# Altium integrated library Lattice SPLD GAL.IntLib: 360 symbols (part 9 of 9)
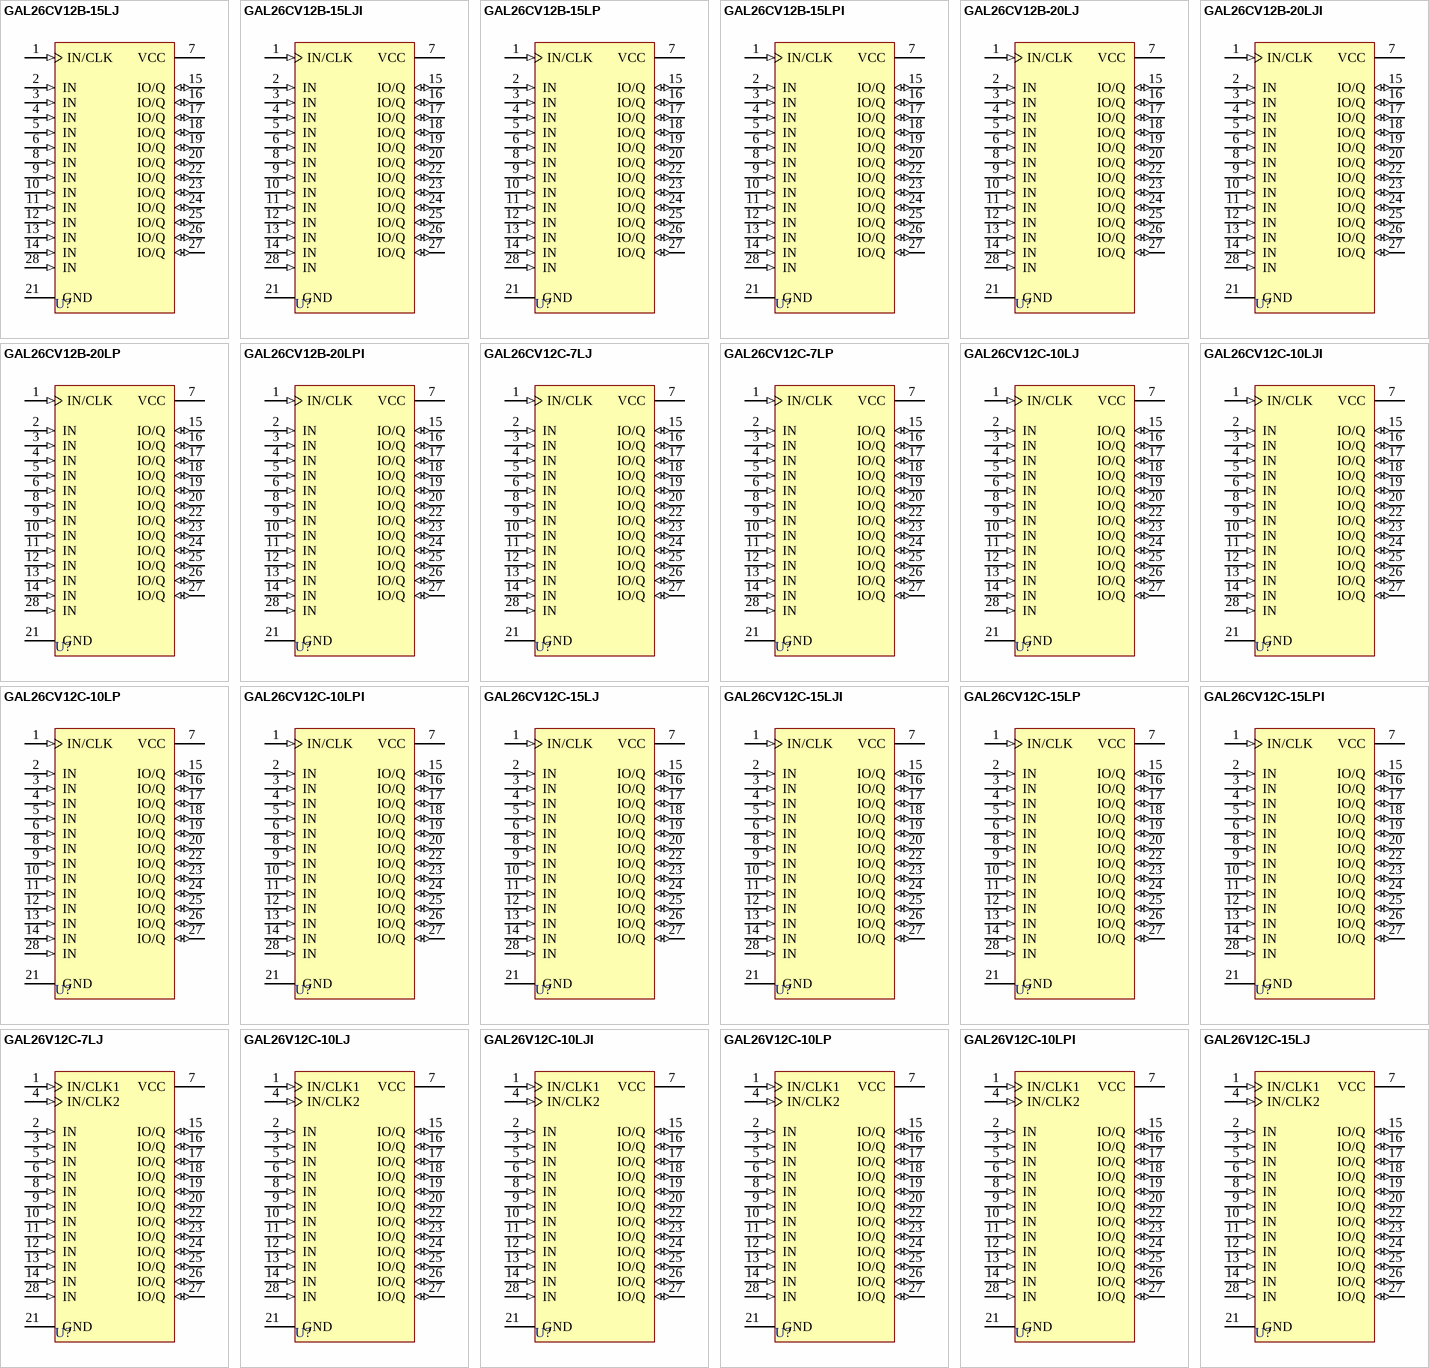
[diagram p21: symbols GAL26CV12B-15LJ to GAL26V12C-15LJ]

## GAL26CV12C-10LJI
designator U?
GAL26CV12 High Performance E²CMOS PLD Generic Array Logic: 5.0 V, 10 ns, Industrial Grade; Published: 17-Jul-2002; LatestRevisionDate: 13-Apr-2006; LatestRevisionNote: IPC-7351 Footprint Added.; DatasheetVersion: 26cv12_03, Jun-2000; PackageVersion: pkg_32, Aug-2005; PackageReference: PLCC28; Publisher: Altium Limited; PackageDescription: 28-Pin Leaded Chip Carrier 1.27 mm Pitch; Code_IPC: PLCC-28; ComponentLink1Description: Manufacturer Link; ComponentLink1URL: http://www.latticesemi.com/products/spld/GAL/index.cfm; ComponentLink2Description: Datasheet; ComponentLink2URL: http://www.latticesemi.com/lit/docs/datasheets/pal_gal/26cv12.pdf
footprint PLCC28_N (Leaded Chip Carrier, 28-Leads, Body 11.5x11.5mm, Pitch 1.27mm, IPC Medium Density)
footprint PLCC28_L (Leaded Chip Carrier, 28-Leads, Body 11.5x11.5mm, Pitch 1.27mm, IPC High Density)
footprint PLCC28_M (Leaded Chip Carrier, 28-Leads, Body 11.5x11.5mm, Pitch 1.27mm, IPC Low Density)
3D model 26CV12-PLCC28 (28-Pin Leaded Chip Carrier 1.27 mm Pitch)
pins: 1 IN/CLK (in), 2 IN (in), 3 IN (in), 4 IN (in), 5 IN (in), 6 IN (in), 7 VCC (power), 8 IN (in), 9 IN (in), 10 IN (in), 11 IN (in), 12 IN (in), 13 IN (in), 14 IN (in), 15 IO/Q (io), 16 IO/Q (io), 17 IO/Q (io), 18 IO/Q (io), 19 IO/Q (io), 20 IO/Q (io), 21 GND (power), 22 IO/Q (io), 23 IO/Q (io), 24 IO/Q (io), 25 IO/Q (io), 26 IO/Q (io), 27 IO/Q (io), 28 IN (in)

## GAL26CV12C-10LP
designator U?
GAL26CV12 High Performance E²CMOS PLD Generic Array Logic: 5.0 V, 10 ns, Commercial Grade; Published: 17-Jul-2002; LatestRevisionDate: 04-Mar-2005; LatestRevisionNote: Stylized 3D Model Added.; DatasheetVersion: 26cv12_02, Jul-1997; PackageVersion: pkg_32, Aug-2005; PackageReference: PDIP28; Publisher: Altium Limited; PackageDescription: DIP; 28 Leads; Row Spacing 7.62 mm; Pitch 2.54 mm; ComponentLink1Description: Manufacturer Link; ComponentLink1URL: http://www.latticesemi.com/products/spld/GAL/index.cfm
footprint PDIP28 (DIP; 28 Leads; Row Spacing 7.62 mm; Pitch 2.54 mm)
3D model PDIP28 (DIP; 28 Leads; Row Spacing 7.62 mm; Pitch 2.54 mm)
pins: 1 IN/CLK (in), 2 IN (in), 3 IN (in), 4 IN (in), 5 IN (in), 6 IN (in), 7 VCC (power), 8 IN (in), 9 IN (in), 10 IN (in), 11 IN (in), 12 IN (in), 13 IN (in), 14 IN (in), 15 IO/Q (io), 16 IO/Q (io), 17 IO/Q (io), 18 IO/Q (io), 19 IO/Q (io), 20 IO/Q (io), 21 GND (power), 22 IO/Q (io), 23 IO/Q (io), 24 IO/Q (io), 25 IO/Q (io), 26 IO/Q (io), 27 IO/Q (io), 28 IN (in)

## GAL26CV12C-10LPI
designator U?
GAL26CV12 High Performance E²CMOS PLD Generic Array Logic: 5.0 V, 10 ns, Industrial Grade; Published: 17-Jul-2002; LatestRevisionDate: 04-Mar-2005; LatestRevisionNote: Stylized 3D Model Added.; DatasheetVersion: 26cv12_03, Jun-2000; PackageVersion: pkg_32, Aug-2005; PackageReference: PDIP28; Publisher: Altium Limited; PackageDescription: DIP; 28 Leads; Row Spacing 7.62 mm; Pitch 2.54 mm; ComponentLink1Description: Manufacturer Link; ComponentLink1URL: http://www.latticesemi.com/products/spld/GAL/index.cfm; ComponentLink2Description: Datasheet; ComponentLink2URL: http://www.latticesemi.com/lit/docs/datasheets/pal_gal/26cv12.pdf
footprint PDIP28 (DIP; 28 Leads; Row Spacing 7.62 mm; Pitch 2.54 mm)
3D model PDIP28 (DIP; 28 Leads; Row Spacing 7.62 mm; Pitch 2.54 mm)
pins: 1 IN/CLK (in), 2 IN (in), 3 IN (in), 4 IN (in), 5 IN (in), 6 IN (in), 7 VCC (power), 8 IN (in), 9 IN (in), 10 IN (in), 11 IN (in), 12 IN (in), 13 IN (in), 14 IN (in), 15 IO/Q (io), 16 IO/Q (io), 17 IO/Q (io), 18 IO/Q (io), 19 IO/Q (io), 20 IO/Q (io), 21 GND (power), 22 IO/Q (io), 23 IO/Q (io), 24 IO/Q (io), 25 IO/Q (io), 26 IO/Q (io), 27 IO/Q (io), 28 IN (in)

## GAL26CV12C-15LJ
designator U?
GAL26CV12 High Performance E²CMOS PLD Generic Array Logic: 5.0 V, 15 ns, Commercial Grade; Published: 17-Jul-2002; LatestRevisionDate: 13-Apr-2006; LatestRevisionNote: IPC-7351 Footprint Added.; DatasheetVersion: 26cv12_02, Jul-1997; PackageVersion: pkg_32, Aug-2005; PackageReference: PLCC28; Publisher: Altium Limited; PackageDescription: 28-Pin Leaded Chip Carrier 1.27 mm Pitch; Code_IPC: PLCC-28; ComponentLink1Description: Manufacturer Link; ComponentLink1URL: http://www.latticesemi.com/products/spld/GAL/index.cfm
footprint PLCC28_N (Leaded Chip Carrier, 28-Leads, Body 11.5x11.5mm, Pitch 1.27mm, IPC Medium Density)
footprint PLCC28_L (Leaded Chip Carrier, 28-Leads, Body 11.5x11.5mm, Pitch 1.27mm, IPC High Density)
footprint PLCC28_M (Leaded Chip Carrier, 28-Leads, Body 11.5x11.5mm, Pitch 1.27mm, IPC Low Density)
3D model 26CV12-PLCC28 (28-Pin Leaded Chip Carrier 1.27 mm Pitch)
pins: 1 IN/CLK (in), 2 IN (in), 3 IN (in), 4 IN (in), 5 IN (in), 6 IN (in), 7 VCC (power), 8 IN (in), 9 IN (in), 10 IN (in), 11 IN (in), 12 IN (in), 13 IN (in), 14 IN (in), 15 IO/Q (io), 16 IO/Q (io), 17 IO/Q (io), 18 IO/Q (io), 19 IO/Q (io), 20 IO/Q (io), 21 GND (power), 22 IO/Q (io), 23 IO/Q (io), 24 IO/Q (io), 25 IO/Q (io), 26 IO/Q (io), 27 IO/Q (io), 28 IN (in)

## GAL26CV12C-15LJI
designator U?
GAL26CV12 High Performance E²CMOS PLD Generic Array Logic: 5.0 V, 15 ns, Industrial Grade; Published: 17-Jul-2002; LatestRevisionDate: 13-Apr-2006; LatestRevisionNote: IPC-7351 Footprint Added.; DatasheetVersion: 26cv12_02, Jul-1997; PackageVersion: pkg_32, Aug-2005; PackageReference: PLCC28; Publisher: Altium Limited; PackageDescription: 28-Pin Leaded Chip Carrier 1.27 mm Pitch; Code_IPC: PLCC-28; ComponentLink1Description: Manufacturer Link; ComponentLink1URL: http://www.latticesemi.com/products/spld/GAL/index.cfm
footprint PLCC28_N (Leaded Chip Carrier, 28-Leads, Body 11.5x11.5mm, Pitch 1.27mm, IPC Medium Density)
footprint PLCC28_L (Leaded Chip Carrier, 28-Leads, Body 11.5x11.5mm, Pitch 1.27mm, IPC High Density)
footprint PLCC28_M (Leaded Chip Carrier, 28-Leads, Body 11.5x11.5mm, Pitch 1.27mm, IPC Low Density)
3D model 26CV12-PLCC28 (28-Pin Leaded Chip Carrier 1.27 mm Pitch)
pins: 1 IN/CLK (in), 2 IN (in), 3 IN (in), 4 IN (in), 5 IN (in), 6 IN (in), 7 VCC (power), 8 IN (in), 9 IN (in), 10 IN (in), 11 IN (in), 12 IN (in), 13 IN (in), 14 IN (in), 15 IO/Q (io), 16 IO/Q (io), 17 IO/Q (io), 18 IO/Q (io), 19 IO/Q (io), 20 IO/Q (io), 21 GND (power), 22 IO/Q (io), 23 IO/Q (io), 24 IO/Q (io), 25 IO/Q (io), 26 IO/Q (io), 27 IO/Q (io), 28 IN (in)

## GAL26CV12C-15LP
designator U?
GAL26CV12 High Performance E²CMOS PLD Generic Array Logic: 5.0 V, 15 ns, Commercial Grade; Published: 17-Jul-2002; LatestRevisionDate: 04-Mar-2005; LatestRevisionNote: Stylized 3D Model Added.; DatasheetVersion: 26cv12_02, Jul-1997; PackageVersion: pkg_32, Aug-2005; PackageReference: PDIP28; Publisher: Altium Limited; PackageDescription: DIP; 28 Leads; Row Spacing 7.62 mm; Pitch 2.54 mm; ComponentLink1Description: Manufacturer Link; ComponentLink1URL: http://www.latticesemi.com/products/spld/GAL/index.cfm
footprint PDIP28 (DIP; 28 Leads; Row Spacing 7.62 mm; Pitch 2.54 mm)
3D model PDIP28 (DIP; 28 Leads; Row Spacing 7.62 mm; Pitch 2.54 mm)
pins: 1 IN/CLK (in), 2 IN (in), 3 IN (in), 4 IN (in), 5 IN (in), 6 IN (in), 7 VCC (power), 8 IN (in), 9 IN (in), 10 IN (in), 11 IN (in), 12 IN (in), 13 IN (in), 14 IN (in), 15 IO/Q (io), 16 IO/Q (io), 17 IO/Q (io), 18 IO/Q (io), 19 IO/Q (io), 20 IO/Q (io), 21 GND (power), 22 IO/Q (io), 23 IO/Q (io), 24 IO/Q (io), 25 IO/Q (io), 26 IO/Q (io), 27 IO/Q (io), 28 IN (in)

## GAL26CV12C-15LPI
designator U?
GAL26CV12 High Performance E²CMOS PLD Generic Array Logic: 5.0 V, 15 ns, Industrial Grade; Published: 17-Jul-2002; LatestRevisionDate: 04-Mar-2005; LatestRevisionNote: Stylized 3D Model Added.; DatasheetVersion: 26cv12_02, Jul-1997; PackageVersion: pkg_32, Aug-2005; PackageReference: PDIP28; Publisher: Altium Limited; PackageDescription: DIP; 28 Leads; Row Spacing 7.62 mm; Pitch 2.54 mm; ComponentLink1Description: Manufacturer Link; ComponentLink1URL: http://www.latticesemi.com/products/spld/GAL/index.cfm
footprint PDIP28 (DIP; 28 Leads; Row Spacing 7.62 mm; Pitch 2.54 mm)
3D model PDIP28 (DIP; 28 Leads; Row Spacing 7.62 mm; Pitch 2.54 mm)
pins: 1 IN/CLK (in), 2 IN (in), 3 IN (in), 4 IN (in), 5 IN (in), 6 IN (in), 7 VCC (power), 8 IN (in), 9 IN (in), 10 IN (in), 11 IN (in), 12 IN (in), 13 IN (in), 14 IN (in), 15 IO/Q (io), 16 IO/Q (io), 17 IO/Q (io), 18 IO/Q (io), 19 IO/Q (io), 20 IO/Q (io), 21 GND (power), 22 IO/Q (io), 23 IO/Q (io), 24 IO/Q (io), 25 IO/Q (io), 26 IO/Q (io), 27 IO/Q (io), 28 IN (in)

## GAL26V12C-7LJ
designator U?
GAL26V12 High Performance E²CMOS PLD Generic Array Logic: 5.0 V, 7.5 ns, Commercial Grade; Published: 17-Jul-2002; LatestRevisionDate: 13-Apr-2006; LatestRevisionNote: IPC-7351 Footprint Added.; DatasheetVersion: Nov-2000; PackageVersion: pkg_32, Aug-2005; PackageReference: PLCC28; Publisher: Altium Limited; PackageDescription: 28-Pin Leaded Chip Carrier 1.27 mm Pitch; Code_IPC: PLCC-28; ComponentLink1Description: Manufacturer Link; ComponentLink1URL: http://www.latticesemi.com/products/spld/GAL/index.cfm; ComponentLink2Description: Datasheet; ComponentLink2URL: http://www.latticesemi.com/lit/docs/datasheets/pal_gal/26v12.pdf
footprint PLCC28_N (Leaded Chip Carrier, 28-Leads, Body 11.5x11.5mm, Pitch 1.27mm, IPC Medium Density)
footprint PLCC28_L (Leaded Chip Carrier, 28-Leads, Body 11.5x11.5mm, Pitch 1.27mm, IPC High Density)
footprint PLCC28_M (Leaded Chip Carrier, 28-Leads, Body 11.5x11.5mm, Pitch 1.27mm, IPC Low Density)
3D model 26V12-PLCC28 (28-Pin Leaded Chip Carrier 1.27 mm Pitch)
pins: 1 IN/CLK1 (in), 2 IN (in), 3 IN (in), 4 IN/CLK2 (in), 5 IN (in), 6 IN (in), 7 VCC (power), 8 IN (in), 9 IN (in), 10 IN (in), 11 IN (in), 12 IN (in), 13 IN (in), 14 IN (in), 15 IO/Q (io), 16 IO/Q (io), 17 IO/Q (io), 18 IO/Q (io), 19 IO/Q (io), 20 IO/Q (io), 21 GND (power), 22 IO/Q (io), 23 IO/Q (io), 24 IO/Q (io), 25 IO/Q (io), 26 IO/Q (io), 27 IO/Q (io), 28 IN (in)

## GAL26V12C-10LJ
designator U?
GAL26V12 High Performance E²CMOS PLD Generic Array Logic: 5.0 V, 10 ns, Commercial Grade; Published: 17-Jul-2002; LatestRevisionDate: 13-Apr-2006; LatestRevisionNote: IPC-7351 Footprint Added.; DatasheetVersion: Nov-2000; PackageVersion: pkg_32, Aug-2005; PackageReference: PLCC28; Publisher: Altium Limited; PackageDescription: 28-Pin Leaded Chip Carrier 1.27 mm Pitch; Code_IPC: PLCC-28; ComponentLink1Description: Manufacturer Link; ComponentLink1URL: http://www.latticesemi.com/products/spld/GAL/index.cfm; ComponentLink2Description: Datasheet; ComponentLink2URL: http://www.latticesemi.com/lit/docs/datasheets/pal_gal/26v12.pdf
footprint PLCC28_N (Leaded Chip Carrier, 28-Leads, Body 11.5x11.5mm, Pitch 1.27mm, IPC Medium Density)
footprint PLCC28_L (Leaded Chip Carrier, 28-Leads, Body 11.5x11.5mm, Pitch 1.27mm, IPC High Density)
footprint PLCC28_M (Leaded Chip Carrier, 28-Leads, Body 11.5x11.5mm, Pitch 1.27mm, IPC Low Density)
3D model 26V12-PLCC28 (28-Pin Leaded Chip Carrier 1.27 mm Pitch)
pins: 1 IN/CLK1 (in), 2 IN (in), 3 IN (in), 4 IN/CLK2 (in), 5 IN (in), 6 IN (in), 7 VCC (power), 8 IN (in), 9 IN (in), 10 IN (in), 11 IN (in), 12 IN (in), 13 IN (in), 14 IN (in), 15 IO/Q (io), 16 IO/Q (io), 17 IO/Q (io), 18 IO/Q (io), 19 IO/Q (io), 20 IO/Q (io), 21 GND (power), 22 IO/Q (io), 23 IO/Q (io), 24 IO/Q (io), 25 IO/Q (io), 26 IO/Q (io), 27 IO/Q (io), 28 IN (in)

## GAL26V12C-10LJI
designator U?
GAL26V12 High Performance E²CMOS PLD Generic Array Logic: 5.0 V, 10 ns, Industrial Grade; Published: 17-Jul-2002; LatestRevisionDate: 13-Apr-2006; LatestRevisionNote: IPC-7351 Footprint Added.; DatasheetVersion: Nov-2000; PackageVersion: pkg_32, Aug-2005; PackageReference: PLCC28; Publisher: Altium Limited; PackageDescription: 28-Pin Leaded Chip Carrier 1.27 mm Pitch; Code_IPC: PLCC-28; ComponentLink1Description: Manufacturer Link; ComponentLink1URL: http://www.latticesemi.com/products/spld/GAL/index.cfm; ComponentLink2Description: Datasheet; ComponentLink2URL: http://www.latticesemi.com/lit/docs/datasheets/pal_gal/26v12.pdf
footprint PLCC28_N (Leaded Chip Carrier, 28-Leads, Body 11.5x11.5mm, Pitch 1.27mm, IPC Medium Density)
footprint PLCC28_L (Leaded Chip Carrier, 28-Leads, Body 11.5x11.5mm, Pitch 1.27mm, IPC High Density)
footprint PLCC28_M (Leaded Chip Carrier, 28-Leads, Body 11.5x11.5mm, Pitch 1.27mm, IPC Low Density)
3D model 26V12-PLCC28 (28-Pin Leaded Chip Carrier 1.27 mm Pitch)
pins: 1 IN/CLK1 (in), 2 IN (in), 3 IN (in), 4 IN/CLK2 (in), 5 IN (in), 6 IN (in), 7 VCC (power), 8 IN (in), 9 IN (in), 10 IN (in), 11 IN (in), 12 IN (in), 13 IN (in), 14 IN (in), 15 IO/Q (io), 16 IO/Q (io), 17 IO/Q (io), 18 IO/Q (io), 19 IO/Q (io), 20 IO/Q (io), 21 GND (power), 22 IO/Q (io), 23 IO/Q (io), 24 IO/Q (io), 25 IO/Q (io), 26 IO/Q (io), 27 IO/Q (io), 28 IN (in)

## GAL26V12C-10LP
designator U?
GAL26V12 High Performance E²CMOS PLD Generic Array Logic: 5.0 V, 10 ns, Commercial Grade; Published: 17-Jul-2002; LatestRevisionDate: 04-Mar-2005; LatestRevisionNote: Stylized 3D Model Added.; DatasheetVersion: Nov-2000; PackageVersion: pkg_32, Aug-2005; PackageReference: PDIP28; Publisher: Altium Limited; PackageDescription: DIP; 28 Leads; Row Spacing 7.62 mm; Pitch 2.54 mm; ComponentLink1Description: Manufacturer Link; ComponentLink1URL: http://www.latticesemi.com/products/spld/GAL/index.cfm; ComponentLink2Description: Datasheet; ComponentLink2URL: http://www.latticesemi.com/lit/docs/datasheets/pal_gal/26v12.pdf
footprint PDIP28 (DIP; 28 Leads; Row Spacing 7.62 mm; Pitch 2.54 mm)
3D model PDIP28 (DIP; 28 Leads; Row Spacing 7.62 mm; Pitch 2.54 mm)
pins: 1 IN/CLK1 (in), 2 IN (in), 3 IN (in), 4 IN/CLK2 (in), 5 IN (in), 6 IN (in), 7 VCC (power), 8 IN (in), 9 IN (in), 10 IN (in), 11 IN (in), 12 IN (in), 13 IN (in), 14 IN (in), 15 IO/Q (io), 16 IO/Q (io), 17 IO/Q (io), 18 IO/Q (io), 19 IO/Q (io), 20 IO/Q (io), 21 GND (power), 22 IO/Q (io), 23 IO/Q (io), 24 IO/Q (io), 25 IO/Q (io), 26 IO/Q (io), 27 IO/Q (io), 28 IN (in)

## GAL26V12C-10LPI
designator U?
GAL26V12 High Performance E²CMOS PLD Generic Array Logic: 5.0 V, 10 ns, Industrial Grade; Published: 17-Jul-2002; LatestRevisionDate: 04-Mar-2005; LatestRevisionNote: Stylized 3D Model Added.; DatasheetVersion: Nov-2000; PackageVersion: pkg_32, Aug-2005; PackageReference: PDIP28; Publisher: Altium Limited; PackageDescription: DIP; 28 Leads; Row Spacing 7.62 mm; Pitch 2.54 mm; ComponentLink1Description: Manufacturer Link; ComponentLink1URL: http://www.latticesemi.com/products/spld/GAL/index.cfm; ComponentLink2Description: Datasheet; ComponentLink2URL: http://www.latticesemi.com/lit/docs/datasheets/pal_gal/26v12.pdf
footprint PDIP28 (DIP; 28 Leads; Row Spacing 7.62 mm; Pitch 2.54 mm)
3D model PDIP28 (DIP; 28 Leads; Row Spacing 7.62 mm; Pitch 2.54 mm)
pins: 1 IN/CLK1 (in), 2 IN (in), 3 IN (in), 4 IN/CLK2 (in), 5 IN (in), 6 IN (in), 7 VCC (power), 8 IN (in), 9 IN (in), 10 IN (in), 11 IN (in), 12 IN (in), 13 IN (in), 14 IN (in), 15 IO/Q (io), 16 IO/Q (io), 17 IO/Q (io), 18 IO/Q (io), 19 IO/Q (io), 20 IO/Q (io), 21 GND (power), 22 IO/Q (io), 23 IO/Q (io), 24 IO/Q (io), 25 IO/Q (io), 26 IO/Q (io), 27 IO/Q (io), 28 IN (in)

## GAL26V12C-15LJ
designator U?
GAL26V12 High Performance E²CMOS PLD Generic Array Logic: 5.0 V, 15 ns, Commercial Grade; Published: 17-Jul-2002; LatestRevisionDate: 13-Apr-2006; LatestRevisionNote: IPC-7351 Footprint Added.; DatasheetVersion: Nov-2000; PackageVersion: pkg_32, Aug-2005; PackageReference: PLCC28; Publisher: Altium Limited; PackageDescription: 28-Pin Leaded Chip Carrier 1.27 mm Pitch; Code_IPC: PLCC-28; ComponentLink1Description: Manufacturer Link; ComponentLink1URL: http://www.latticesemi.com/products/spld/GAL/index.cfm; ComponentLink2Description: Datasheet; ComponentLink2URL: http://www.latticesemi.com/lit/docs/datasheets/pal_gal/26v12.pdf
footprint PLCC28_N (Leaded Chip Carrier, 28-Leads, Body 11.5x11.5mm, Pitch 1.27mm, IPC Medium Density)
footprint PLCC28_L (Leaded Chip Carrier, 28-Leads, Body 11.5x11.5mm, Pitch 1.27mm, IPC High Density)
footprint PLCC28_M (Leaded Chip Carrier, 28-Leads, Body 11.5x11.5mm, Pitch 1.27mm, IPC Low Density)
3D model 26V12-PLCC28 (28-Pin Leaded Chip Carrier 1.27 mm Pitch)
pins: 1 IN/CLK1 (in), 2 IN (in), 3 IN (in), 4 IN/CLK2 (in), 5 IN (in), 6 IN (in), 7 VCC (power), 8 IN (in), 9 IN (in), 10 IN (in), 11 IN (in), 12 IN (in), 13 IN (in), 14 IN (in), 15 IO/Q (io), 16 IO/Q (io), 17 IO/Q (io), 18 IO/Q (io), 19 IO/Q (io), 20 IO/Q (io), 21 GND (power), 22 IO/Q (io), 23 IO/Q (io), 24 IO/Q (io), 25 IO/Q (io), 26 IO/Q (io), 27 IO/Q (io), 28 IN (in)

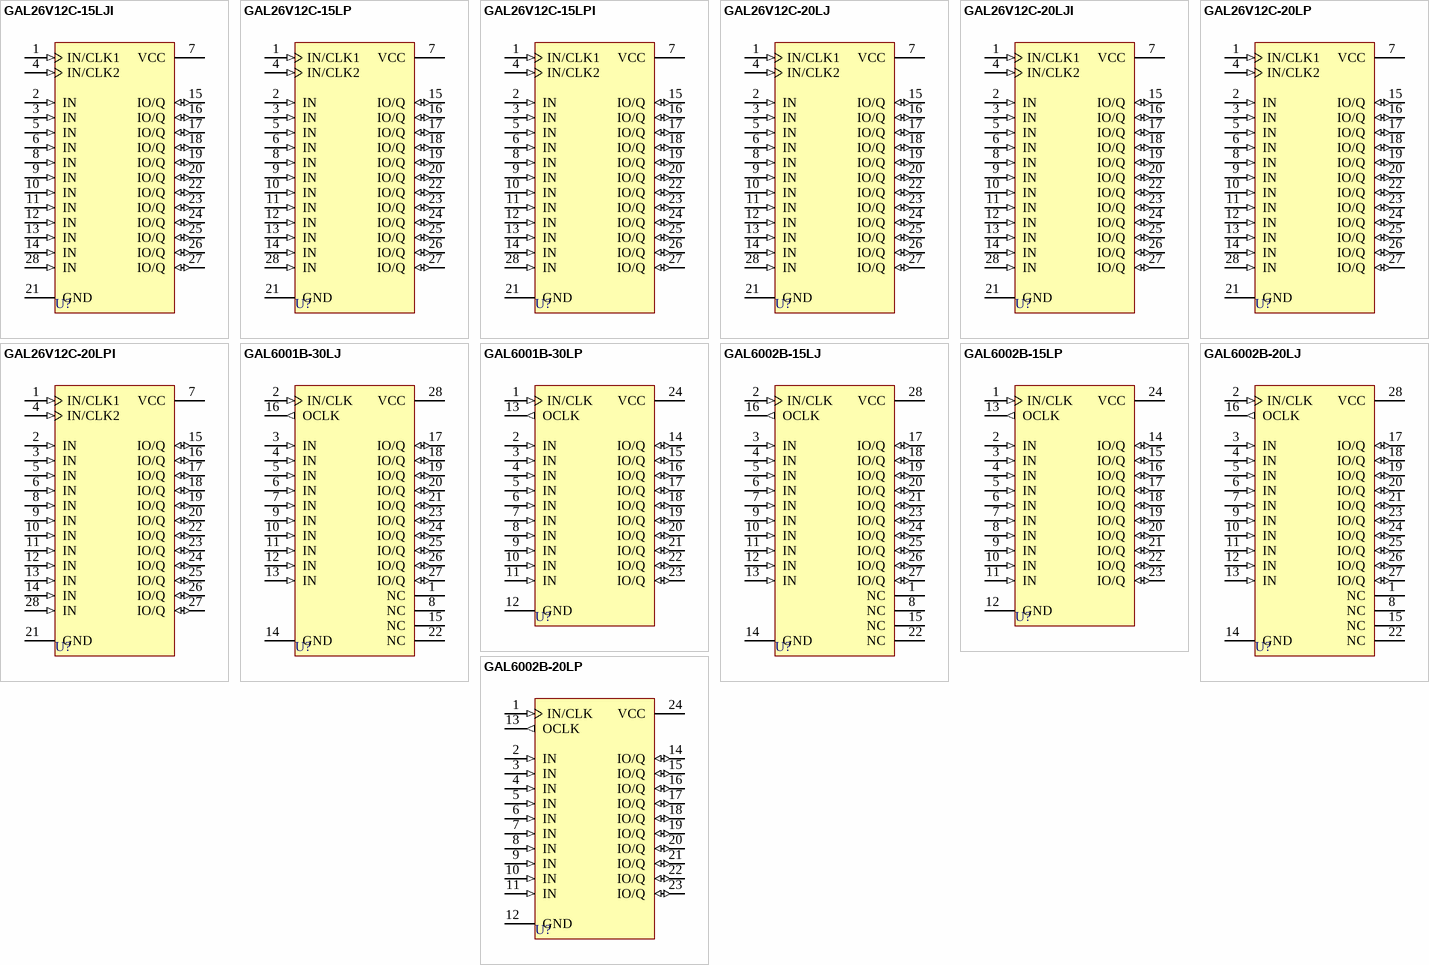
[diagram p13: symbols GAL26V12C-15LJI to GAL6002B-20LP]

## GAL26V12C-15LJI
designator U?
GAL26V12 High Performance E²CMOS PLD Generic Array Logic: 5.0 V, 15 ns, Industrial Grade; Published: 17-Jul-2002; LatestRevisionDate: 13-Apr-2006; LatestRevisionNote: IPC-7351 Footprint Added.; DatasheetVersion: Nov-2000; PackageVersion: pkg_32, Aug-2005; PackageReference: PLCC28; Publisher: Altium Limited; PackageDescription: 28-Pin Leaded Chip Carrier 1.27 mm Pitch; Code_IPC: PLCC-28; ComponentLink1Description: Manufacturer Link; ComponentLink1URL: http://www.latticesemi.com/products/spld/GAL/index.cfm; ComponentLink2Description: Datasheet; ComponentLink2URL: http://www.latticesemi.com/lit/docs/datasheets/pal_gal/26v12.pdf
footprint PLCC28_N (Leaded Chip Carrier, 28-Leads, Body 11.5x11.5mm, Pitch 1.27mm, IPC Medium Density)
footprint PLCC28_L (Leaded Chip Carrier, 28-Leads, Body 11.5x11.5mm, Pitch 1.27mm, IPC High Density)
footprint PLCC28_M (Leaded Chip Carrier, 28-Leads, Body 11.5x11.5mm, Pitch 1.27mm, IPC Low Density)
3D model 26V12-PLCC28 (28-Pin Leaded Chip Carrier 1.27 mm Pitch)
pins: 1 IN/CLK1 (in), 2 IN (in), 3 IN (in), 4 IN/CLK2 (in), 5 IN (in), 6 IN (in), 7 VCC (power), 8 IN (in), 9 IN (in), 10 IN (in), 11 IN (in), 12 IN (in), 13 IN (in), 14 IN (in), 15 IO/Q (io), 16 IO/Q (io), 17 IO/Q (io), 18 IO/Q (io), 19 IO/Q (io), 20 IO/Q (io), 21 GND (power), 22 IO/Q (io), 23 IO/Q (io), 24 IO/Q (io), 25 IO/Q (io), 26 IO/Q (io), 27 IO/Q (io), 28 IN (in)

## GAL26V12C-15LP
designator U?
GAL26V12 High Performance E²CMOS PLD Generic Array Logic: 5.0 V, 15 ns, Commercial Grade; Published: 17-Jul-2002; LatestRevisionDate: 04-Mar-2005; LatestRevisionNote: Stylized 3D Model Added.; DatasheetVersion: Nov-2000; PackageVersion: pkg_32, Aug-2005; PackageReference: PDIP28; Publisher: Altium Limited; PackageDescription: DIP; 28 Leads; Row Spacing 7.62 mm; Pitch 2.54 mm; ComponentLink1Description: Manufacturer Link; ComponentLink1URL: http://www.latticesemi.com/products/spld/GAL/index.cfm; ComponentLink2Description: Datasheet; ComponentLink2URL: http://www.latticesemi.com/lit/docs/datasheets/pal_gal/26v12.pdf
footprint PDIP28 (DIP; 28 Leads; Row Spacing 7.62 mm; Pitch 2.54 mm)
3D model PDIP28 (DIP; 28 Leads; Row Spacing 7.62 mm; Pitch 2.54 mm)
pins: 1 IN/CLK1 (in), 2 IN (in), 3 IN (in), 4 IN/CLK2 (in), 5 IN (in), 6 IN (in), 7 VCC (power), 8 IN (in), 9 IN (in), 10 IN (in), 11 IN (in), 12 IN (in), 13 IN (in), 14 IN (in), 15 IO/Q (io), 16 IO/Q (io), 17 IO/Q (io), 18 IO/Q (io), 19 IO/Q (io), 20 IO/Q (io), 21 GND (power), 22 IO/Q (io), 23 IO/Q (io), 24 IO/Q (io), 25 IO/Q (io), 26 IO/Q (io), 27 IO/Q (io), 28 IN (in)

## GAL26V12C-15LPI
designator U?
GAL26V12 High Performance E²CMOS PLD Generic Array Logic: 5.0 V, 15 ns, Industrial Grade; Published: 17-Jul-2002; LatestRevisionDate: 04-Mar-2005; LatestRevisionNote: Stylized 3D Model Added.; DatasheetVersion: Nov-2000; PackageVersion: pkg_32, Aug-2005; PackageReference: PDIP28; Publisher: Altium Limited; PackageDescription: DIP; 28 Leads; Row Spacing 7.62 mm; Pitch 2.54 mm; ComponentLink1Description: Manufacturer Link; ComponentLink1URL: http://www.latticesemi.com/products/spld/GAL/index.cfm; ComponentLink2Description: Datasheet; ComponentLink2URL: http://www.latticesemi.com/lit/docs/datasheets/pal_gal/26v12.pdf
footprint PDIP28 (DIP; 28 Leads; Row Spacing 7.62 mm; Pitch 2.54 mm)
3D model PDIP28 (DIP; 28 Leads; Row Spacing 7.62 mm; Pitch 2.54 mm)
pins: 1 IN/CLK1 (in), 2 IN (in), 3 IN (in), 4 IN/CLK2 (in), 5 IN (in), 6 IN (in), 7 VCC (power), 8 IN (in), 9 IN (in), 10 IN (in), 11 IN (in), 12 IN (in), 13 IN (in), 14 IN (in), 15 IO/Q (io), 16 IO/Q (io), 17 IO/Q (io), 18 IO/Q (io), 19 IO/Q (io), 20 IO/Q (io), 21 GND (power), 22 IO/Q (io), 23 IO/Q (io), 24 IO/Q (io), 25 IO/Q (io), 26 IO/Q (io), 27 IO/Q (io), 28 IN (in)

## GAL26V12C-20LJ
designator U?
GAL26V12 High Performance E²CMOS PLD Generic Array Logic: 5.0 V, 20 ns, Commercial Grade; Published: 17-Jul-2002; LatestRevisionDate: 13-Apr-2006; LatestRevisionNote: IPC-7351 Footprint Added.; DatasheetVersion: Nov-2000; PackageVersion: pkg_32, Aug-2005; PackageReference: PLCC28; Publisher: Altium Limited; PackageDescription: 28-Pin Leaded Chip Carrier 1.27 mm Pitch; Code_IPC: PLCC-28; ComponentLink1Description: Manufacturer Link; ComponentLink1URL: http://www.latticesemi.com/products/spld/GAL/index.cfm; ComponentLink2Description: Datasheet; ComponentLink2URL: http://www.latticesemi.com/lit/docs/datasheets/pal_gal/26v12.pdf
footprint PLCC28_N (Leaded Chip Carrier, 28-Leads, Body 11.5x11.5mm, Pitch 1.27mm, IPC Medium Density)
footprint PLCC28_L (Leaded Chip Carrier, 28-Leads, Body 11.5x11.5mm, Pitch 1.27mm, IPC High Density)
footprint PLCC28_M (Leaded Chip Carrier, 28-Leads, Body 11.5x11.5mm, Pitch 1.27mm, IPC Low Density)
3D model 26V12-PLCC28 (28-Pin Leaded Chip Carrier 1.27 mm Pitch)
pins: 1 IN/CLK1 (in), 2 IN (in), 3 IN (in), 4 IN/CLK2 (in), 5 IN (in), 6 IN (in), 7 VCC (power), 8 IN (in), 9 IN (in), 10 IN (in), 11 IN (in), 12 IN (in), 13 IN (in), 14 IN (in), 15 IO/Q (io), 16 IO/Q (io), 17 IO/Q (io), 18 IO/Q (io), 19 IO/Q (io), 20 IO/Q (io), 21 GND (power), 22 IO/Q (io), 23 IO/Q (io), 24 IO/Q (io), 25 IO/Q (io), 26 IO/Q (io), 27 IO/Q (io), 28 IN (in)

## GAL26V12C-20LJI
designator U?
GAL26V12 High Performance E²CMOS PLD Generic Array Logic: 5.0 V, 20 ns, Industrial Grade; Published: 17-Jul-2002; LatestRevisionDate: 13-Apr-2006; LatestRevisionNote: IPC-7351 Footprint Added.; DatasheetVersion: Nov-2000; PackageVersion: pkg_32, Aug-2005; PackageReference: PLCC28; Publisher: Altium Limited; PackageDescription: 28-Pin Leaded Chip Carrier 1.27 mm Pitch; Code_IPC: PLCC-28; ComponentLink1Description: Manufacturer Link; ComponentLink1URL: http://www.latticesemi.com/products/spld/GAL/index.cfm; ComponentLink2Description: Datasheet; ComponentLink2URL: http://www.latticesemi.com/lit/docs/datasheets/pal_gal/26v12.pdf
footprint PLCC28_N (Leaded Chip Carrier, 28-Leads, Body 11.5x11.5mm, Pitch 1.27mm, IPC Medium Density)
footprint PLCC28_L (Leaded Chip Carrier, 28-Leads, Body 11.5x11.5mm, Pitch 1.27mm, IPC High Density)
footprint PLCC28_M (Leaded Chip Carrier, 28-Leads, Body 11.5x11.5mm, Pitch 1.27mm, IPC Low Density)
3D model 26V12-PLCC28 (28-Pin Leaded Chip Carrier 1.27 mm Pitch)
pins: 1 IN/CLK1 (in), 2 IN (in), 3 IN (in), 4 IN/CLK2 (in), 5 IN (in), 6 IN (in), 7 VCC (power), 8 IN (in), 9 IN (in), 10 IN (in), 11 IN (in), 12 IN (in), 13 IN (in), 14 IN (in), 15 IO/Q (io), 16 IO/Q (io), 17 IO/Q (io), 18 IO/Q (io), 19 IO/Q (io), 20 IO/Q (io), 21 GND (power), 22 IO/Q (io), 23 IO/Q (io), 24 IO/Q (io), 25 IO/Q (io), 26 IO/Q (io), 27 IO/Q (io), 28 IN (in)

## GAL26V12C-20LP
designator U?
GAL26V12 High Performance E²CMOS PLD Generic Array Logic: 5.0 V, 20 ns, Commercial Grade; Published: 17-Jul-2002; LatestRevisionDate: 04-Mar-2005; LatestRevisionNote: Stylized 3D Model Added.; DatasheetVersion: Nov-2000; PackageVersion: pkg_32, Aug-2005; PackageReference: PDIP28; Publisher: Altium Limited; PackageDescription: DIP; 28 Leads; Row Spacing 7.62 mm; Pitch 2.54 mm; ComponentLink1Description: Manufacturer Link; ComponentLink1URL: http://www.latticesemi.com/products/spld/GAL/index.cfm; ComponentLink2Description: Datasheet; ComponentLink2URL: http://www.latticesemi.com/lit/docs/datasheets/pal_gal/26v12.pdf
footprint PDIP28 (DIP; 28 Leads; Row Spacing 7.62 mm; Pitch 2.54 mm)
3D model PDIP28 (DIP; 28 Leads; Row Spacing 7.62 mm; Pitch 2.54 mm)
pins: 1 IN/CLK1 (in), 2 IN (in), 3 IN (in), 4 IN/CLK2 (in), 5 IN (in), 6 IN (in), 7 VCC (power), 8 IN (in), 9 IN (in), 10 IN (in), 11 IN (in), 12 IN (in), 13 IN (in), 14 IN (in), 15 IO/Q (io), 16 IO/Q (io), 17 IO/Q (io), 18 IO/Q (io), 19 IO/Q (io), 20 IO/Q (io), 21 GND (power), 22 IO/Q (io), 23 IO/Q (io), 24 IO/Q (io), 25 IO/Q (io), 26 IO/Q (io), 27 IO/Q (io), 28 IN (in)

## GAL26V12C-20LPI
designator U?
GAL26V12 High Performance E²CMOS PLD Generic Array Logic: 5.0 V, 20 ns, Industrial Grade; Published: 17-Jul-2002; LatestRevisionDate: 04-Mar-2005; LatestRevisionNote: Stylized 3D Model Added.; DatasheetVersion: Nov-2000; PackageVersion: pkg_32, Aug-2005; PackageReference: PDIP28; Publisher: Altium Limited; PackageDescription: DIP; 28 Leads; Row Spacing 7.62 mm; Pitch 2.54 mm; ComponentLink1Description: Manufacturer Link; ComponentLink1URL: http://www.latticesemi.com/products/spld/GAL/index.cfm; ComponentLink2Description: Datasheet; ComponentLink2URL: http://www.latticesemi.com/lit/docs/datasheets/pal_gal/26v12.pdf
footprint PDIP28 (DIP; 28 Leads; Row Spacing 7.62 mm; Pitch 2.54 mm)
3D model PDIP28 (DIP; 28 Leads; Row Spacing 7.62 mm; Pitch 2.54 mm)
pins: 1 IN/CLK1 (in), 2 IN (in), 3 IN (in), 4 IN/CLK2 (in), 5 IN (in), 6 IN (in), 7 VCC (power), 8 IN (in), 9 IN (in), 10 IN (in), 11 IN (in), 12 IN (in), 13 IN (in), 14 IN (in), 15 IO/Q (io), 16 IO/Q (io), 17 IO/Q (io), 18 IO/Q (io), 19 IO/Q (io), 20 IO/Q (io), 21 GND (power), 22 IO/Q (io), 23 IO/Q (io), 24 IO/Q (io), 25 IO/Q (io), 26 IO/Q (io), 27 IO/Q (io), 28 IN (in)

## GAL6001B-30LJ
designator U?
GAL6001 High Performance E²CMOS FPLA Generic Array Logic: 5.0 V, 30 ns, Commercial Grade; Published: 17-Jul-2002; LatestRevisionDate: 13-Apr-2006; LatestRevisionNote: IPC-7351 Footprint Added.; DatasheetVersion: 6001_02, Jul-1997; PackageVersion: pkg_32, Aug-2005; PackageReference: PLCC28; Publisher: Altium Limited; PackageDescription: 28-Pin Leaded Chip Carrier 1.27 mm Pitch; Code_IPC: PLCC-28; ComponentLink1Description: Manufacturer Link; ComponentLink1URL: http://www.latticesemi.com/products/spld/GAL/index.cfm; ComponentLink2Description: Datasheet; ComponentLink2URL: http://www.latticesemi.com/lit/docs/datasheets/pal_gal/6001.pdf
footprint PLCC28_N (Leaded Chip Carrier, 28-Leads, Body 11.5x11.5mm, Pitch 1.27mm, IPC Medium Density)
footprint PLCC28_L (Leaded Chip Carrier, 28-Leads, Body 11.5x11.5mm, Pitch 1.27mm, IPC High Density)
footprint PLCC28_M (Leaded Chip Carrier, 28-Leads, Body 11.5x11.5mm, Pitch 1.27mm, IPC Low Density)
3D model 6001-PLCC28 (28-Pin Leaded Chip Carrier 1.27 mm Pitch)
pins: 1 NC, 2 IN/CLK (in), 3 IN (in), 4 IN (in), 5 IN (in), 6 IN (in), 7 IN (in), 8 NC, 9 IN (in), 10 IN (in), 11 IN (in), 12 IN (in), 13 IN (in), 14 GND (power), 15 NC, 16 OCLK (out), 17 IO/Q (io), 18 IO/Q (io), 19 IO/Q (io), 20 IO/Q (io), 21 IO/Q (io), 22 NC, 23 IO/Q (io), 24 IO/Q (io), 25 IO/Q (io), 26 IO/Q (io), 27 IO/Q (io), 28 VCC (power)

## GAL6001B-30LP
designator U?
GAL6001 High Performance E²CMOS FPLA Generic Array Logic: 5.0 V, 30 ns, Commercial Grade; Published: 17-Jul-2002; LatestRevisionDate: 04-Mar-2005; LatestRevisionNote: Stylized 3D Model Added.; DatasheetVersion: 6001_02, Jul-1997; PackageVersion: pkg_32, Aug-2005; PackageReference: PDIP24; Publisher: Altium Limited; PackageDescription: DIP; 24 Leads; Row Spacing 7.62 mm; Pitch 2.54 mm; Code_JEDEC: MS-001-AF; ComponentLink1Description: Manufacturer Link; ComponentLink1URL: http://www.latticesemi.com/products/spld/GAL/index.cfm; ComponentLink2Description: Datasheet; ComponentLink2URL: http://www.latticesemi.com/lit/docs/datasheets/pal_gal/6001.pdf
footprint PDIP24 (DIP; 24 Leads; Row Spacing 7.62 mm; Pitch 2.54 mm)
3D model DIP24 (DIP; 24 Leads; Row Spacing 7.62 mm; Pitch 2.54 mm)
pins: 1 IN/CLK (in), 2 IN (in), 3 IN (in), 4 IN (in), 5 IN (in), 6 IN (in), 7 IN (in), 8 IN (in), 9 IN (in), 10 IN (in), 11 IN (in), 12 GND (power), 13 OCLK (out), 14 IO/Q (io), 15 IO/Q (io), 16 IO/Q (io), 17 IO/Q (io), 18 IO/Q (io), 19 IO/Q (io), 20 IO/Q (io), 21 IO/Q (io), 22 IO/Q (io), 23 IO/Q (io), 24 VCC (power)

## GAL6002B-15LJ
designator U?
GAL6002 High Performance E²CMOS FPLA Generic Array Logic: 5.0 V, 15 ns, Commercial Grade; Note: Pins 1, 8, 15 and 22 are No internal Connection (NC) pins.; Published: 8-Jun-2000; LatestRevisionDate: 13-Apr-2006; LatestRevisionNote: IPC-7351 Footprint Added.; DatasheetVersion: 6002_02, Jul-1997; PackageVersion: pkg_32, Aug-2005; PackageReference: PLCC28; Publisher: Altium Limited; PackageDescription: 28-Pin Leaded Chip Carrier 1.27 mm Pitch; Code_IPC: PLCC-28; ComponentLink1Description: Manufacturer Link; ComponentLink1URL: http://www.latticesemi.com/products/spld/GAL/index.cfm; ComponentLink2Description: Datasheet; ComponentLink2URL: http://www.latticesemi.com/lit/docs/datasheets/pal_gal/6002.pdf
footprint PLCC28_N (Leaded Chip Carrier, 28-Leads, Body 11.5x11.5mm, Pitch 1.27mm, IPC Medium Density)
footprint PLCC28_L (Leaded Chip Carrier, 28-Leads, Body 11.5x11.5mm, Pitch 1.27mm, IPC High Density)
footprint PLCC28_M (Leaded Chip Carrier, 28-Leads, Body 11.5x11.5mm, Pitch 1.27mm, IPC Low Density)
3D model 6002-PLCC28 (28-Pin Leaded Chip Carrier 1.27 mm Pitch)
pins: 1 NC, 2 IN/CLK (in), 3 IN (in), 4 IN (in), 5 IN (in), 6 IN (in), 7 IN (in), 8 NC, 9 IN (in), 10 IN (in), 11 IN (in), 12 IN (in), 13 IN (in), 14 GND (power), 15 NC, 16 OCLK (out), 17 IO/Q (io), 18 IO/Q (io), 19 IO/Q (io), 20 IO/Q (io), 21 IO/Q (io), 22 NC, 23 IO/Q (io), 24 IO/Q (io), 25 IO/Q (io), 26 IO/Q (io), 27 IO/Q (io), 28 VCC (power)

## GAL6002B-15LP
designator U?
GAL6002 High Performance E²CMOS FPLA Generic Array Logic: 5.0 V, 15 ns, Commercial Grade; Published: 8-Jun-2000; LatestRevisionDate: 04-Mar-2005; LatestRevisionNote: Stylized 3D Model Added.; DatasheetVersion: 6002_02, Jul-1997; PackageVersion: pkg_32, Aug-2005; PackageReference: PDIP24; Publisher: Altium Limited; PackageDescription: DIP; 24 Leads; Row Spacing 7.62 mm; Pitch 2.54 mm; Code_JEDEC: MS-001-AF; ComponentLink1Description: Manufacturer Link; ComponentLink1URL: http://www.latticesemi.com/products/spld/GAL/index.cfm; ComponentLink2Description: Datasheet; ComponentLink2URL: http://www.latticesemi.com/lit/docs/datasheets/pal_gal/6002.pdf
footprint PDIP24 (DIP; 24 Leads; Row Spacing 7.62 mm; Pitch 2.54 mm)
3D model DIP24 (DIP; 24 Leads; Row Spacing 7.62 mm; Pitch 2.54 mm)
pins: 1 IN/CLK (in), 2 IN (in), 3 IN (in), 4 IN (in), 5 IN (in), 6 IN (in), 7 IN (in), 8 IN (in), 9 IN (in), 10 IN (in), 11 IN (in), 12 GND (power), 13 OCLK (out), 14 IO/Q (io), 15 IO/Q (io), 16 IO/Q (io), 17 IO/Q (io), 18 IO/Q (io), 19 IO/Q (io), 20 IO/Q (io), 21 IO/Q (io), 22 IO/Q (io), 23 IO/Q (io), 24 VCC (power)

## GAL6002B-20LJ
designator U?
GAL6002 High Performance E²CMOS FPLA Generic Array Logic: 5.0 V, 20 ns, Commercial Grade; Note: Pins 1, 8, 15 and 22 are No internal Connection (NC) pins.; Published: 8-Jun-2000; LatestRevisionDate: 13-Apr-2006; LatestRevisionNote: IPC-7351 Footprint Added.; DatasheetVersion: 6002_02, Jul-1997; PackageVersion: pkg_32, Aug-2005; PackageReference: PLCC28; Publisher: Altium Limited; PackageDescription: 28-Pin Leaded Chip Carrier 1.27 mm Pitch; Code_IPC: PLCC-28; ComponentLink1Description: Manufacturer Link; ComponentLink1URL: http://www.latticesemi.com/products/spld/GAL/index.cfm; ComponentLink2Description: Datasheet; ComponentLink2URL: http://www.latticesemi.com/lit/docs/datasheets/pal_gal/6002.pdf
footprint PLCC28_N (Leaded Chip Carrier, 28-Leads, Body 11.5x11.5mm, Pitch 1.27mm, IPC Medium Density)
footprint PLCC28_L (Leaded Chip Carrier, 28-Leads, Body 11.5x11.5mm, Pitch 1.27mm, IPC High Density)
footprint PLCC28_M (Leaded Chip Carrier, 28-Leads, Body 11.5x11.5mm, Pitch 1.27mm, IPC Low Density)
3D model 6002-PLCC28 (28-Pin Leaded Chip Carrier 1.27 mm Pitch)
pins: 1 NC, 2 IN/CLK (in), 3 IN (in), 4 IN (in), 5 IN (in), 6 IN (in), 7 IN (in), 8 NC, 9 IN (in), 10 IN (in), 11 IN (in), 12 IN (in), 13 IN (in), 14 GND (power), 15 NC, 16 OCLK (out), 17 IO/Q (io), 18 IO/Q (io), 19 IO/Q (io), 20 IO/Q (io), 21 IO/Q (io), 22 NC, 23 IO/Q (io), 24 IO/Q (io), 25 IO/Q (io), 26 IO/Q (io), 27 IO/Q (io), 28 VCC (power)

## GAL6002B-20LP
designator U?
GAL6002 High Performance E²CMOS FPLA Generic Array Logic: 5.0 V, 20 ns, Commercial Grade; Published: 8-Jun-2000; LatestRevisionDate: 04-Mar-2005; LatestRevisionNote: Stylized 3D Model Added.; DatasheetVersion: 6002_02, Jul-1997; PackageVersion: pkg_32, Aug-2005; PackageReference: PDIP24; Publisher: Altium Limited; PackageDescription: DIP; 24 Leads; Row Spacing 7.62 mm; Pitch 2.54 mm; Code_JEDEC: MS-001-AF; ComponentLink1Description: Manufacturer Link; ComponentLink1URL: http://www.latticesemi.com/products/spld/GAL/index.cfm; ComponentLink2Description: Datasheet; ComponentLink2URL: http://www.latticesemi.com/lit/docs/datasheets/pal_gal/6002.pdf
footprint PDIP24 (DIP; 24 Leads; Row Spacing 7.62 mm; Pitch 2.54 mm)
3D model DIP24 (DIP; 24 Leads; Row Spacing 7.62 mm; Pitch 2.54 mm)
pins: 1 IN/CLK (in), 2 IN (in), 3 IN (in), 4 IN (in), 5 IN (in), 6 IN (in), 7 IN (in), 8 IN (in), 9 IN (in), 10 IN (in), 11 IN (in), 12 GND (power), 13 OCLK (out), 14 IO/Q (io), 15 IO/Q (io), 16 IO/Q (io), 17 IO/Q (io), 18 IO/Q (io), 19 IO/Q (io), 20 IO/Q (io), 21 IO/Q (io), 22 IO/Q (io), 23 IO/Q (io), 24 VCC (power)